# Altium integrated library WE-MCA Multilayer Chip Antenna.IntLib: 1 symbol
Pins are listed as number, name and electrical type; pins without a type are passive.

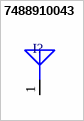
[diagram p0: symbol 7488910043]

## 7488910043
designator I?
Multilayer Chip Antenna WE-MCA, Frequency 423MHz to 443MHz, Z=50 Ohm; PartNumber: 7488910043; Impedance: 50 Zhm; Frequency Range: 423 to 443 MHz; PackageReference: WE-MCA; ComponentLink1Description: Manufacturer URL; ComponentLink1URL: http://www.we-online.com; ComponentLink2Description: Datasheet; ComponentLink2URL: http://katalog.we-online.com/pbs/datasheet/7488910043.pdf
footprint WE-MCA (Chip Inductor, 2-Leads, Body 25.0x5.0mm)
pins: 1